# Altium footprint library RK3288-MID.PcbLib: 55 footprints (part 2 of 4)
Each footprint in its own frame and in the unit in brackets; x right, y up, seen from the top. Pads: shape width x height; smd on the part's side, far side on the other; paste and mask are expansions set on the pad; w line width, h text height; cw(c..) or ccw(c..) is an arc to the next point about the centre after c.
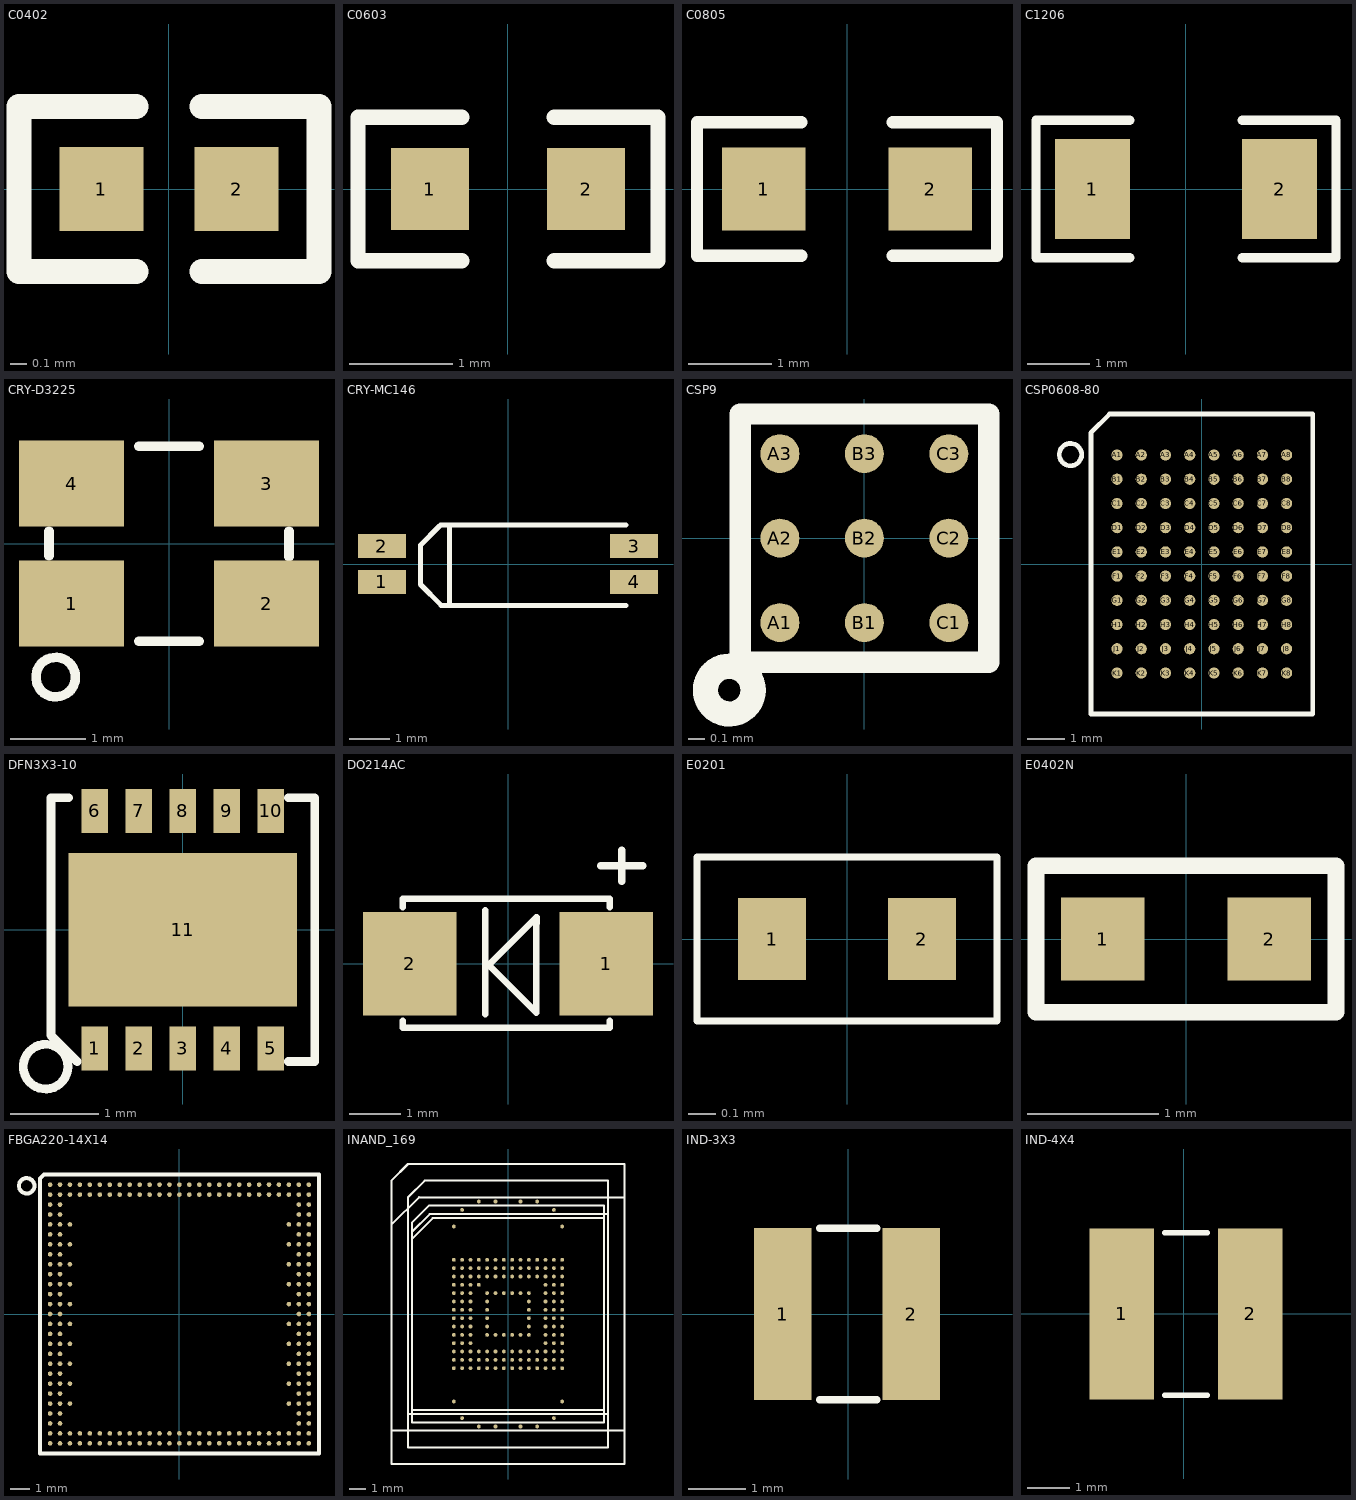
[diagram p1: the footprints below, top view; thin cyan lines are the x and y axes]

## C0402 [mm] "C0402"
pads (2):
  rect 0.51x0.51 smd: 1(-0.41,0) 2(0.41,0)
Top Overlay:
  lines w0.15: -0.2,-0.5 -0.91,-0.5 -0.91,0.5 -0.2,0.5 ; 0.2,-0.5 0.91,-0.5 0.91,0.5 0.2,0.5

## C0603 [mm] "C0603"
pads (2):
  rect 0.76x0.8 smd: 1(-0.76,0) 2(0.76,0)
Top Overlay:
  lines w0.15: -0.45,-0.7 -1.46,-0.7 -1.46,0.7 -0.45,0.7 ; 0.45,-0.7 1.46,-0.7 1.46,0.7 0.45,0.7

## C0805 [mm] "C0805"
pads (2):
  rect 1x1 smd: 1(-1,0) 2(1,0)
Top Overlay:
  lines w0.15: -0.55,-0.8 -1.8,-0.8 -1.8,0.8 -0.55,0.8 ; 0.55,-0.8 1.8,-0.8 1.8,0.8 0.55,0.8

## C1206 [mm] "C1206"
pads (2):
  rect 1.2x1.6 smd: 1(-1.5,0) 2(1.5,0)
Top Overlay:
  lines w0.15: -0.9,-1.1 -2.4,-1.1 -2.4,1.1 -0.9,1.1 ; 0.9,-1.1 2.4,-1.1 2.4,1.1 0.9,1.1

## CRY-D3225 [mm] "CRY-D3225"
pads (4):
  rect 1.4x1.15 smd: 1(-1.3,-0.8) 2(1.3,-0.8) 3(1.3,0.8) 4(-1.3,0.8)
Top Overlay:
  circle w0.127: c-1.51,-1.78 r0.263
  lines w0.127: -1.6,-0.164 -1.6,0.163 ; -0.4,-1.3 0.4,-1.3 ; -0.4,1.3 0.4,1.3 ; 1.6,-0.172 1.6,0.163

## CRY-MC146 [mm] "CRY-MC146"
pads (4):
  rect 1.2x0.6 smd: 1(-3.15,-0.45) 2(-3.15,0.45) 3(3.15,0.45) 4(3.15,-0.45)
Top Overlay:
  lines w0.127: -1.71,0.95 -2.19,0.47 -2.19,-0.51 -1.67,-1.03 ; -1.69,0.97 2.945,0.97 ; -1.68,-1.034 2.945,-1.034 ; -1.46,-1.03 -1.46,0.97

## CSP9 [mm] "CSP9"
pads (9):
  round 0.23 smd: A1(-0.5,-0.5) A2(-0.5,0) A3(-0.5,0.5) B1(0,-0.5) B2(0,0) B3(0,0.5) C1(0.5,-0.5) C2(0.5,0) C3(0.5,0.5)
Top Overlay:
  circle w0.15: c-0.8,-0.9 r0.141
  lines w0.127: -0.735,-0.735 0.735,-0.735 0.735,0.735 -0.735,0.735 -0.735,-0.735

## CSP0608-80 [mm] "CSP0608-80"
pads (80):
  round 0.3 smd: A1(-2.275,2.925) A2(-1.625,2.925) A3(-0.975,2.925) A4(-0.325,2.925) A5(0.325,2.925) A6(0.975,2.925) A7(1.625,2.925) A8(2.275,2.925) B1(-2.275,2.275) B2(-1.625,2.275) B3(-0.975,2.275) B4(-0.325,2.275) B5(0.325,2.275) B6(0.975,2.275) B7(1.625,2.275) B8(2.275,2.275) C1(-2.275,1.625) C2(-1.625,1.625) C3(-0.975,1.625) C4(-0.325,1.625) C5(0.325,1.625) C6(0.975,1.625) C7(1.625,1.625) C8(2.275,1.625) D1(-2.275,0.975) D2(-1.625,0.975) D3(-0.975,0.975) D4(-0.325,0.975) D5(0.325,0.975) D6(0.975,0.975) D7(1.625,0.975) D8(2.275,0.975) E1(-2.275,0.325) E2(-1.625,0.325) E3(-0.975,0.325) E4(-0.325,0.325) E5(0.325,0.325) E6(0.975,0.325) E7(1.625,0.325) E8(2.275,0.325) F1(-2.275,-0.325) F2(-1.625,-0.325) F3(-0.975,-0.325) F4(-0.325,-0.325) F5(0.325,-0.325) F6(0.975,-0.325) F7(1.625,-0.325) F8(2.275,-0.325) G1(-2.275,-0.975) G2(-1.625,-0.975) G3(-0.975,-0.975) G4(-0.325,-0.975) G5(0.325,-0.975) G6(0.975,-0.975) G7(1.625,-0.975) G8(2.275,-0.975) H1(-2.275,-1.625) H2(-1.625,-1.625) H3(-0.975,-1.625) H4(-0.325,-1.625) H5(0.325,-1.625) H6(0.975,-1.625) H7(1.625,-1.625) H8(2.275,-1.625) J1(-2.275,-2.275) J2(-1.625,-2.275) J3(-0.975,-2.275) J4(-0.325,-2.275) J5(0.325,-2.275) J6(0.975,-2.275) J7(1.625,-2.275) J8(2.275,-2.275) K1(-2.275,-2.925) K2(-1.625,-2.925) K3(-0.975,-2.925) K4(-0.325,-2.925) K5(0.325,-2.925) K6(0.975,-2.925) K7(1.625,-2.925) K8(2.275,-2.925)
Top Overlay:
  circle w0.127: c-3.525,2.936 r0.3
  lines w0.127: -2.975,-4.025 2.975,-4.025 2.975,4.025 -2.475,4.025 -2.975,3.525 -2.975,-4.025

## DFN3X3-10 [mm] "DFN3X3-10"
pads (11):
  rect 0.3x0.5 smd: 1(-1,-1.35) 2(-0.5,-1.35) 3(0,-1.35) 4(0.5,-1.35) 5(1,-1.35) 6(-1,1.35) 7(-0.5,1.35) 8(0,1.35) 9(0.5,1.35) 10(1,1.35)
  rect 2.6x1.75 smd: 11(0,0)
Top Overlay:
  circle w0.1: c-1.561,-1.557 r0.254
  lines w0.1: -1.3,1.5 -1.5,1.5 -1.5,-1.2 -1.2,-1.5 ; 1.2,-1.5 1.5,-1.5 1.5,1.5 1.2,1.5

## DO214AC [mm] "DO214AC"
pads (2):
  rect 1.8x2 smd: 1(1.9,0) 2(-1.9,0)
Top Overlay:
  lines w0.127: -2.036,-1.1 -2.036,-1.236 1.964,-1.236 1.964,-1.1 ; -2.036,1.1 -2.036,1.264 1.964,1.264 1.964,1.1 ; -0.443,-0.972 -0.443,1.036 ; 0.55,0.785 0.55,-0.943 -0.372,-0.021 0.552,0.901 0.552,0.784
  lines w0.15: 1.8,1.9 2.6,1.9 ; 2.2,1.6 2.2,2.2

## E0201 [mm] "E0201"
pads (2):
  rect 0.25x0.3 smd: 1(-0.275,0) 2(0.275,0)
Top Overlay:
  lines w0.025: -0.55,-0.3 -0.55,0.3 0.55,0.3 0.55,-0.3 -0.55,-0.3

## E0402N [mm] "E0402N"
pads (2):
  rect 0.635x0.635 smd: 1(-0.635,0) 2(0.635,0)
Top Overlay:
  lines w0.127: -1.143,-0.559 1.143,-0.559 1.143,0.559 -1.143,0.559 -1.143,-0.559

## FBGA220-14X14 [mm] "FBGA220-14X14"
pads (220):
  round 0.23 smd: A1(-6.5,6.5) A2(-6,6.5) A3(-5.5,6.5) A4(-5,6.5) A5(-4.5,6.5) A6(-4,6.5) A7(-3.5,6.5) A8(-3,6.5) A9(-2.5,6.5) A10(-2,6.5) A11(-1.5,6.5) A12(-1,6.5) A13(-0.5,6.5) A14(0,6.5) A15(0.5,6.5) A16(1,6.5) A17(1.5,6.5) A18(2,6.5) A19(2.5,6.5) A20(3,6.5) A21(3.5,6.5) A22(4,6.5) A23(4.5,6.5) A24(5,6.5) A25(5.5,6.5) A26(6,6.5) A27(6.5,6.5) AA1(-6.5,-3.5) AA2(-6,-3.5) AA3(-5.5,-3.5) AA25(5.5,-3.5) AA26(6,-3.5) AA27(6.5,-3.5) AB1(-6.5,-4) AB2(-6,-4) AB26(6,-4) AB27(6.5,-4) AC1(-6.5,-4.5) AC2(-6,-4.5) AC3(-5.5,-4.5) AC25(5.5,-4.5) AC26(6,-4.5) AC27(6.5,-4.5) AD1(-6.5,-5) AD2(-6,-5) AD26(6,-5) AD27(6.5,-5) AE1(-6.5,-5.5) AE2(-6,-5.5) AE26(6,-5.5) AE27(6.5,-5.5) AF1(-6.5,-6) AF2(-6,-6) AF3(-5.5,-6) AF4(-5,-6) AF5(-4.5,-6) AF6(-4,-6) AF7(-3.5,-6) AF8(-3,-6) AF9(-2.5,-6) AF10(-2,-6) AF11(-1.5,-6) AF12(-1,-6) AF13(-0.5,-6) AF14(0,-6) AF15(0.5,-6) AF16(1,-6) AF17(1.5,-6) AF18(2,-6) AF19(2.5,-6) AF20(3,-6) AF21(3.5,-6) AF22(4,-6) AF23(4.5,-6) AF24(5,-6) AF25(5.5,-6) AF26(6,-6) AF27(6.5,-6) AG1(-6.5,-6.5) AG2(-6,-6.5) AG3(-5.5,-6.5) AG4(-5,-6.5) AG5(-4.5,-6.5) AG6(-4,-6.5) AG7(-3.5,-6.5) AG8(-3,-6.5) AG9(-2.5,-6.5) AG10(-2,-6.5) AG11(-1.5,-6.5) AG12(-1,-6.5) AG13(-0.5,-6.5) AG14(0,-6.5) AG15(0.5,-6.5) AG16(1,-6.5) AG17(1.5,-6.5) AG18(2,-6.5) AG19(2.5,-6.5) AG20(3,-6.5) AG21(3.5,-6.5) AG22(4,-6.5) AG23(4.5,-6.5) AG24(5,-6.5) AG25(5.5,-6.5) AG26(6,-6.5) AG27(6.5,-6.5) B1(-6.5,6) B2(-6,6) B3(-5.5,6) B4(-5,6) B5(-4.5,6) B6(-4,6) B7(-3.5,6) B8(-3,6) B9(-2.5,6) B10(-2,6) B11(-1.5,6) B12(-1,6) B13(-0.5,6) B14(0,6) B15(0.5,6) B16(1,6) B17(1.5,6) B18(2,6) B19(2.5,6) B20(3,6) B21(3.5,6) B22(4,6) B23(4.5,6) B24(5,6) B25(5.5,6) B26(6,6) B27(6.5,6) C1(-6.5,5.5) C2(-6,5.5) C26(6,5.5) C27(6.5,5.5) D1(-6.5,5) D2(-6,5) D26(6,5) D27(6.5,5) E1(-6.5,4.5) E2(-6,4.5) E3(-5.5,4.5) E25(5.5,4.5) E26(6,4.5) E27(6.5,4.5) F1(-6.5,4) F2(-6,4) F26(6,4) F27(6.5,4) G1(-6.5,3.5) G2(-6,3.5) G3(-5.5,3.5) G25(5.5,3.5) G26(6,3.5) G27(6.5,3.5) H1(-6.5,3) H2(-6,3) H26(6,3) H27(6.5,3) J1(-6.5,2.5) J2(-6,2.5) J3(-5.5,2.5) J25(5.5,2.5) J26(6,2.5) J27(6.5,2.5) K1(-6.5,2) K2(-6,2) K26(6,2) K27(6.5,2) L1(-6.5,1.5) L2(-6,1.5) L3(-5.5,1.5) L25(5.5,1.5) L26(6,1.5) L27(6.5,1.5) M1(-6.5,1) M2(-6,1) M26(6,1) M27(6.5,1) N1(-6.5,0.5) N2(-6,0.5) N3(-5.5,0.5) N25(5.5,0.5) N26(6,0.5) N27(6.5,0.5) P1(-6.5,0) P2(-6,0) P26(6,0) P27(6.5,0) R1(-6.5,-0.5) R2(-6,-0.5) R3(-5.5,-0.5) R25(5.5,-0.5) R26(6,-0.5) R27(6.5,-0.5) T1(-6.5,-1) T2(-6,-1) T26(6,-1) T27(6.5,-1) U1(-6.5,-1.5) U2(-6,-1.5) U3(-5.5,-1.5) U25(5.5,-1.5) U26(6,-1.5) U27(6.5,-1.5) V1(-6.5,-2) V2(-6,-2) V26(6,-2) V27(6.5,-2) W1(-6.5,-2.5) W2(-6,-2.5) W3(-5.5,-2.5) W25(5.5,-2.5) W26(6,-2.5) W27(6.5,-2.5) Y1(-6.5,-3) Y2(-6,-3) Y26(6,-3) Y27(6.5,-3)
Top Overlay:
  circle w0.2: c-7.674,6.438 r0.386
  lines w0.2: -7.013,-7.013 7.013,-7.013 7.013,7.013 -6.815,7.013 -7.013,6.815 -7.013,-7.013

## INAND_169 [mm] "INAND_169"
pads (169):
  round 0.23 smd: A4(-1.75,6.75) A6(-0.75,6.75) A9(0.75,6.75) A11(1.75,6.75) AA1(-3.25,-3.25) AA2(-2.75,-3.25) AA3(-2.25,-3.25) AA4(-1.75,-3.25) AA5(-1.25,-3.25) AA6(-0.75,-3.25) AA7(-0.25,-3.25) AA8(0.25,-3.25) AA9(0.75,-3.25) AA10(1.25,-3.25) AA11(1.75,-3.25) AA12(2.25,-3.25) AA13(2.75,-3.25) AA14(3.25,-3.25) AE1(-3.25,-5.25) AE14(3.25,-5.25) AG2(-2.75,-6.25) AG13(2.75,-6.25) AH4(-1.75,-6.75) AH6(-0.75,-6.75) AH9(0.75,-6.75) AH11(1.75,-6.75) B2(-2.75,6.25) B13(2.75,6.25) D1(-3.25,5.25) D14(3.25,5.25) H1(-3.25,3.25) H2(-2.75,3.25) H3(-2.25,3.25) H4(-1.75,3.25) H5(-1.25,3.25) H6(-0.75,3.25) H7(-0.25,3.25) H8(0.25,3.25) H9(0.75,3.25) H10(1.25,3.25) H11(1.75,3.25) H12(2.25,3.25) H13(2.75,3.25) H14(3.25,3.25) J1(-3.25,2.75) J2(-2.75,2.75) J3(-2.25,2.75) J4(-1.75,2.75) J5(-1.25,2.75) J6(-0.75,2.75) J7(-0.25,2.75) J8(0.25,2.75) J9(0.75,2.75) J10(1.25,2.75) J11(1.75,2.75) J12(2.25,2.75) J13(2.75,2.75) J14(3.25,2.75) K1(-3.25,2.25) K2(-2.75,2.25) K3(-2.25,2.25) K4(-1.75,2.25) K5(-1.25,2.25) K6(-0.75,2.25) K7(-0.25,2.25) K8(0.25,2.25) K9(0.75,2.25) K10(1.25,2.25) K11(1.75,2.25) K12(2.25,2.25) K13(2.75,2.25) K14(3.25,2.25) L1(-3.25,1.75) L2(-2.75,1.75) L3(-2.25,1.75) L4(-1.75,1.75) L12(2.25,1.75) L13(2.75,1.75) L14(3.25,1.75) M1(-3.25,1.25) M2(-2.75,1.25) M3(-2.25,1.25) M5(-1.25,1.25) M6(-0.75,1.25) M7(-0.25,1.25) M8(0.25,1.25) M9(0.75,1.25) M10(1.25,1.25) M12(2.25,1.25) M13(2.75,1.25) M14(3.25,1.25) N1(-3.25,0.75) N2(-2.75,0.75) N3(-2.25,0.75) N5(-1.25,0.75) N10(1.25,0.75) N12(2.25,0.75) N13(2.75,0.75) N14(3.25,0.75) P1(-3.25,0.25) P2(-2.75,0.25) P3(-2.25,0.25) P5(-1.25,0.25) P10(1.25,0.25) P12(2.25,0.25) P13(2.75,0.25) P14(3.25,0.25) R1(-3.25,-0.25) R2(-2.75,-0.25) R3(-2.25,-0.25) R5(-1.25,-0.25) R10(1.25,-0.25) R12(2.25,-0.25) R13(2.75,-0.25) R14(3.25,-0.25) T1(-3.25,-0.75) T2(-2.75,-0.75) T3(-2.25,-0.75) T5(-1.25,-0.75) T10(1.25,-0.75) T12(2.25,-0.75) T13(2.75,-0.75) T14(3.25,-0.75) U1(-3.25,-1.25) U2(-2.75,-1.25) U3(-2.25,-1.25) U5(-1.25,-1.25) U6(-0.75,-1.25) U7(-0.25,-1.25) U8(0.25,-1.25) U9(0.75,-1.25) U10(1.25,-1.25) U12(2.25,-1.25) U13(2.75,-1.25) U14(3.25,-1.25) V1(-3.25,-1.75) V2(-2.75,-1.75) V3(-2.25,-1.75) V12(2.25,-1.75) V13(2.75,-1.75) V14(3.25,-1.75) W1(-3.25,-2.25) W2(-2.75,-2.25) W3(-2.25,-2.25) W4(-1.75,-2.25) W5(-1.25,-2.25) W6(-0.75,-2.25) W7(-0.25,-2.25) W8(0.25,-2.25) W9(0.75,-2.25) W10(1.25,-2.25) W11(1.75,-2.25) W12(2.25,-2.25) W13(2.75,-2.25) W14(3.25,-2.25) Y1(-3.25,-2.75) Y2(-2.75,-2.75) Y3(-2.25,-2.75) Y4(-1.75,-2.75) Y5(-1.25,-2.75) Y6(-0.75,-2.75) Y7(-0.25,-2.75) Y8(0.25,-2.75) Y9(0.75,-2.75) Y10(1.25,-2.75) Y11(1.75,-2.75) Y12(2.25,-2.75) Y13(2.75,-2.75) Y14(3.25,-2.75)
Top Overlay:
  lines w0.127: -7,-7 7,-7 ; -6.995,5.354 -5.334,7.015 ; -6,-6 6,-6 ; -5.75,-5.75 5.75,-5.75 ; -5.744,4.948 -4.704,5.989 ; -5.739,4.522 -4.523,5.738 ; -5.292,7 7,7 ; -4.688,6 6,6 ; -4.523,5.75 5.75,5.75 ; -7,-9 -7,8 -6,9 7,9 7,-9 -7,-9 ; -6,-8 6,-8 6,8 -5,8 -6,7 -6,-8 ; -5.75,-6.5 5.75,-6.5 5.75,6.5 -4.75,6.5 -5.75,5.5 -5.75,-6.5

## IND-3X3 [mm] "IND-3X3"
pads (2):
  rect 1x3 smd: 1(-1.139,0) 2(1.103,0)
Top Overlay:
  lines w0.127: -0.5,-1.5 0.5,-1.5 ; -0.5,1.5 0.5,1.5

## IND-4X4 [mm] "IND-4X4"
pads (2):
  rect 1.5x4 smd: 1(-1.45,0) 2(1.55,0)
Top Overlay:
  lines w0.127: -0.45,-1.9 0.55,-1.9 ; -0.45,1.9 0.55,1.9